# Altium footprint library Connector.PcbLib: 240 footprints (part 12 of 15)
Each footprint in its own frame and in the unit in brackets; x right, y up, seen from the top. Pads: shape width x height; smd on the part's side, far side on the other; paste and mask are expansions set on the pad; w line width, h text height; cw(c..) or ccw(c..) is an arc to the next point about the centre after c.
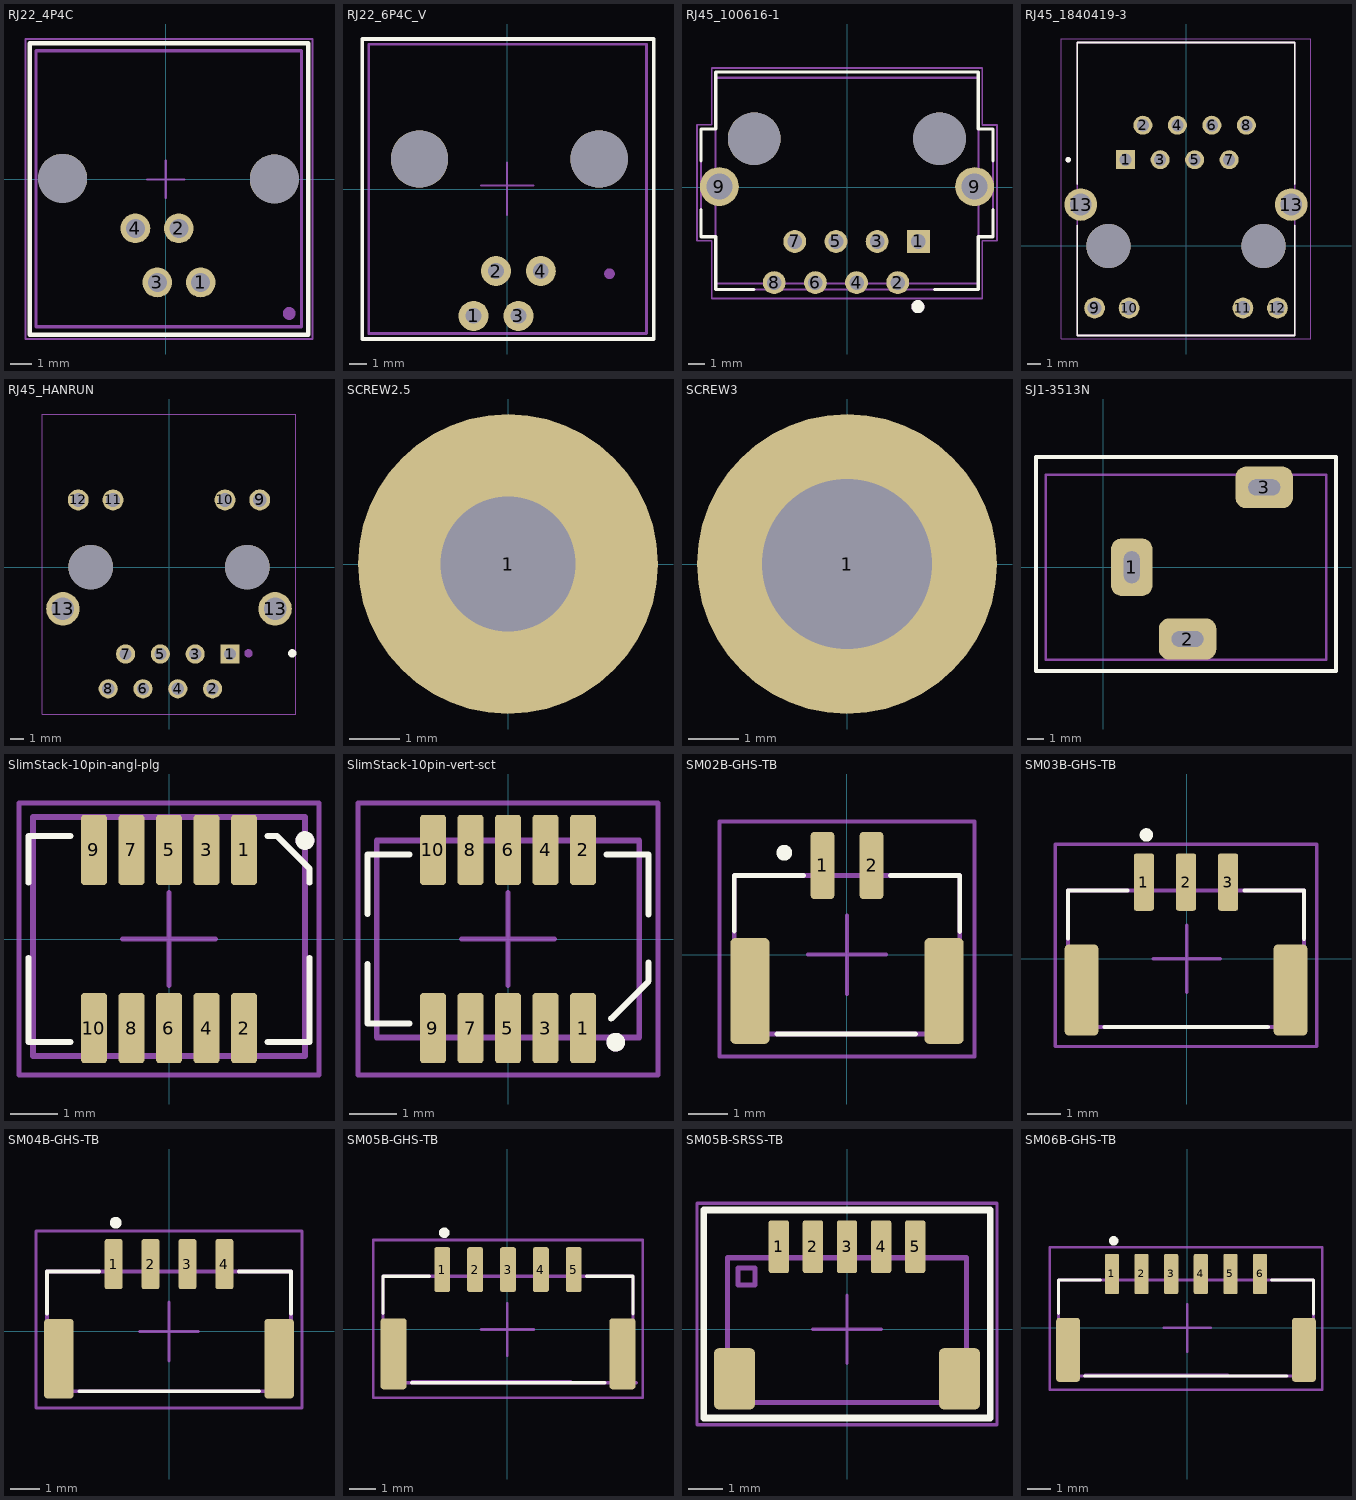
[diagram p11: the footprints below, top view; thin cyan lines are the x and y axes]

## RJ22_4P4C [mm]
pads (6):
  round 1.398 hole 0.89: 1(1.64,-4.84) 2(0.61,-2.3) 3(-0.4,-4.84) 4(-1.43,-2.3)
  round 2.3 hole 2.3 unplated: ""(-4.85,0.05) ""(5.1,0.025)
Top Overlay:
  lines w0.2: -6.4,-7.3 -6.4,6.4 6.7,6.4 6.7,-7.3 -6.4,-7.3
Mechanical 4:
  circle w0.3: c5.8,-6.3 r0.15
Mechanical 9:
  text ".Designator" at -5.45,9.3 h3.5
Mechanical 10:
  text ".Comment" at -3.25,7.3 h2
Mechanical 11:
  lines w0.15: -6.1,-6.925 6.375,-6.925 6.375,6.05 -6.1,6.05 -6.1,-6.925
Mechanical 15:
  lines w0.1: -0.875,0 0.875,0 ; 0,-0.875 0,0.875 ; -6.6,-7.5 6.9,-7.5 6.9,6.6 -6.6,6.6 -6.6,-7.5
3D body "71070909.stp": height 14.55, standoff -3.4, extent -6.106,-6.945 6.356,6.055

## RJ22_6P4C_V [mm]
pads (6):
  round 1.7 hole 0.89: 1(-1.9,-7.19) 2(-0.63,-4.65) 3(0.64,-7.19) 4(1.91,-4.65)
  round 3.25 hole 3.25 unplated: ""(-4.965,1.7) ""(5.215,1.7)
Top Overlay:
  lines w0.2: -8.2,-8.5 -8.2,8.5 8.3,8.5 8.3,-8.5 -8.2,-8.5
Mechanical 4:
  circle w0.3: c5.8,-4.8 r0.15
Mechanical 9:
  text ".Designator" at -5.8,-11.8 h3.5
Mechanical 10:
  text ".Comment" at -3.6,-13.8 h2
Mechanical 11:
  lines w0.15: -7.85,-8.185 -7.85,8.195 7.9,8.195 7.9,-8.185 -7.85,-8.185
Mechanical 15:
  lines w0.1: -1.5,0.2 1.5,0.2 ; 0,-1.47 0,1.5 ; -8.2,-8.5 8.3,-8.5 8.3,8.5 -8.2,8.5 -8.2,-8.5
3D body "69254-002LFc.stp": height 15.05, standoff -4.5, extent -7.85,-8.185 7.9,8.195

## RJ45_100616-1 [mm]
pads (12):
  rect 1.408x1.408 hole 0.9: 1(4.395,-3.335)
  round 1.408 hole 0.9: 2(3.125,-5.875) 3(1.855,-3.335) 4(0.585,-5.875) 5(-0.685,-3.335) 6(-1.955,-5.875) 7(-3.225,-3.335) 8(-4.495,-5.875)
  round 2.4 hole 1.6: 9(-7.88,0.05) 9(7.87,0.05)
  round 3.25 hole 3.25 unplated: ""(-5.73,3) ""(5.7,3)
Top Overlay:
  circle w0.4: c4.365,-7.355 r0.2
  lines w0.2: -9.005,-1.36 -9.005,-3.04 -8.105,-3.04 -8.105,-6.29 -5.76,-6.29 ; -9.005,1.64 -9.005,3.6 ; -9.005,3.605 -8.105,3.605 -8.105,7.11 8.095,7.11 8.095,3.6 8.995,3.6 8.995,1.64 ; 5.4,-6.29 8.095,-6.29 8.095,-3.04 8.995,-3.04 8.995,-1.36
Mechanical 7:
  circle w0.4: c4.365,-7.36 r0.2
  circle w0.4: c4.365,-7.36 r0.2
  lines w0.127: -9.005,-3.04 -8.105,-3.04 ; -9.005,-3.04 -9.005,3.605 ; -9.005,-3.04 -8.105,-3.04 ; -9.005,-3.04 -9.005,3.605 ; -9.005,3.605 -8.105,3.605 ; -9.005,3.605 -8.105,3.605 ; -8.105,-6.29 8.095,-6.29 ; -8.105,-6.29 -8.105,-5.94 ; -8.105,-6.29 8.095,-6.29 ; -8.105,-6.29 -8.105,-5.94 ; -8.105,-5.94 8.095,-5.94 ; -8.105,-5.94 -8.105,-3.04 ; -8.105,-5.94 8.095,-5.94 ; -8.105,-5.94 -8.105,-3.04 ; -8.105,-3.04 -8.105,3.605 ; -8.105,-3.04 -8.105,3.605 ; -8.105,3.605 -8.105,6.76 ; -8.105,3.605 -8.105,6.76 ; -8.105,6.76 -8.105,7.11 ; -8.105,6.76 8.095,6.76 ; -8.105,6.76 -8.105,7.11 ; -8.105,6.76 8.095,6.76 ; -8.105,7.11 8.095,7.11 ; -8.105,7.11 8.095,7.11 ; 8.095,-6.29 8.095,-5.94 ; 8.095,-6.29 8.095,-5.94 ; 8.095,-5.94 8.095,-3.04 ; 8.095,-5.94 8.095,-3.04 ; 8.095,-3.04 8.995,-3.04 ; 8.095,-3.04 8.095,3.6 ; 8.095,-3.04 8.995,-3.04 ; 8.095,-3.04 8.095,3.6 ; 8.095,3.6 8.995,3.6 ; 8.095,3.6 8.095,6.76 ; 8.095,3.6 8.995,3.6 ; 8.095,3.6 8.095,6.76 ; 8.095,6.76 8.095,7.11 ; 8.095,6.76 8.095,7.11 ; 8.995,-3.04 8.995,3.6 ; 8.995,-3.04 8.995,3.6
Mechanical 9:
  text ".Designator" at -6.36,12.76 h3.5
Mechanical 10:
  text ".Comment" at -2.96,10.56 h2
Mechanical 15:
  lines w0.1: -9.255,-3.29 -8.355,-3.29 -8.355,-6.85 8.345,-6.85 8.345,-3.29 9.245,-3.29 9.245,3.85 8.345,3.85 8.345,7.36 -8.355,7.36 -8.355,3.855 -9.255,3.855 -9.255,-3.29
3D body "c-100616-1-g-3d.stp": height 16.7, standoff -3.15, extent -9.035,-6.625 8.965,6.775

## RJ45_1840419-3 [mm]
pads (16):
  rect 1.398x1.398 hole 0.89: 1(-4.445,6.35)
  round 1.398 hole 0.89: 2(-3.175,8.89) 3(-1.905,6.35) 4(-0.635,8.89) 5(0.635,6.35) 6(1.905,8.89) 7(3.175,6.35) 8(4.445,8.89)
  round 1.53 hole 1.02: 9(-6.73,-4.57) 10(-4.19,-4.57) 11(4.19,-4.57) 12(6.73,-4.57)
  round 2.4 hole 1.6: 13(-7.745,3.05) 13(7.745,3.05)
  round 3.25 hole 3.25 unplated: ""(-5.715,0) ""(5.715,0)
Top Overlay:
  circle w0.2: c-8.675,6.35 r0.1
  lines w0.127: -8,1.52 -8,-6.6 8,-6.6 8,1.52 ; -8,4.57 -8,14.99 8,14.99 8,4.57
Mechanical 13:
  circle w0.2: c-8.675,6.35 r0.1
  lines w0.127: -8,-6.6 -8,14.99 8,14.99 8,-6.6 -8,-6.6
Mechanical 15:
  lines w0.05: -9.2,-6.85 -9.2,15.24 9.2,15.24 9.2,-6.85 -9.2,-6.85
3D body "Ethernet2.STEP": height 16.51, standoff -3.56, extent -8.545,-6.605 8.545,14.985

## RJ45_HANRUN [mm]
pads (16):
  rect 1.398x1.398 hole 0.89: 1(4.45,-6.35)
  round 1.398 hole 0.89: 2(3.18,-8.89) 3(1.91,-6.35) 4(0.64,-8.89) 5(-0.63,-6.35) 6(-1.9,-8.89) 7(-3.17,-6.35) 8(-4.44,-8.89)
  round 1.53 hole 1.02: 9(6.625,4.9) 10(4.085,4.9) 11(-4.085,4.9) 12(-6.625,4.9)
  round 2.445 hole 1.63: 13(-7.745,-3.05) 13(7.745,-3.05)
  round 3.25 hole 3.25 unplated: ""(-5.715,0) ""(5.715,0)
Top Overlay:
  circle w0.3: c9,-6.3 r0.15
Mechanical 4:
  circle w0.3: c5.8,-6.3 r0.15
  circle w0.3: c5.8,-6.3 r0.15
Mechanical 15:
  lines w0.05: -9.25,-10.73 9.25,-10.73 9.25,11.17 -9.25,11.17 -9.25,-10.73
3D body "User Library-HR911105A.step": height 13.5, standoff -3, extent -7.93,-10.475 7.95,10.925

## SCREW2.5 [mm]
height 0.05
pads (1):
  round 6 hole 2.7: 1(0,0)

## SCREW3 [mm]
height 0.05
pads (1):
  round 6 hole 3.4: 1(0,0)

## SJ1-3513N [mm]
pads (3):
  rrect50% 2.6x3.6 hole 1 slot 2 at 90 deg: 1(1.8,0)
  rrect50% 3.6x2.6 hole 1 slot 2 at 0 deg: 2(5.3,-4.5) 3(10.1,5)
Top Overlay:
  lines w0.254: -4.2,-6.5 -4.2,6.9 14.6,6.9 14.6,-6.5 -4.2,-6.5
Mechanical 7:
  lines w0.15: -3.6,-5.8 -3.6,5.8 14,5.8 14,-5.8 -3.6,-5.8
3D body "sj1-3513.stp": height 6, standoff -3, extent -3.55,-5.75 13.95,5.75

## SlimStack-10pin-angl-plg [mm]
pads (10):
  rrect25% 0.55x1.5 smd: 1(1.6,1.9) 2(1.6,-1.9) 3(0.8,1.9) 4(0.8,-1.9) 5(0,1.9) 6(0,-1.9) 7(-0.8,1.9) 8(-0.8,-1.9) 9(-1.6,1.9) 10(-1.6,-1.9)
Top Overlay:
  circle w0.2: c2.9,2.1 r0.1
  lines w0.127: -3,-0.4 -3,-2.2 -2.1,-2.2 ; -3,1.2 -3,2.2 -2.1,2.2 ; 2.1,-2.2 3,-2.2 3,-0.4 ; 2.1,2.2 2.3,2.2 3,1.5 3,1.2
Mechanical 7:
  circle w0.2: c2.9,2.1 r0.1
  lines w0.127: -2.9,-2.5 2.9,-2.5 2.9,2.6 -2.9,2.6 -2.9,-2.5
Mechanical 9:
  text ".Designator" at -4.9,4.6 h3.5
Mechanical 10:
  text ".Comment" at -3.1,-5.9 h2
Mechanical 15:
  lines w0.1: -1,0 1,0 ; 0,-1 0,1 ; -3.2,-2.9 3.2,-2.9 3.2,2.9 -3.2,2.9 -3.2,-2.9
3D body "533091070.stp": height 4.67, standoff -0.02, extent -2.9,-2.5 2.9,2.6

## SlimStack-10pin-vert-sct [mm]
pads (10):
  rrect25% 0.55x1.5 smd: 1(1.6,-1.9) 2(1.6,1.9) 3(0.8,-1.9) 4(0.8,1.9) 5(0,-1.9) 6(0,1.9) 7(-0.8,-1.9) 8(-0.8,1.9) 9(-1.6,-1.9) 10(-1.6,1.9)
Top Overlay:
  circle w0.2: c2.3,-2.2 r0.1
  lines w0.127: -3,-0.53 -3,-1.8 -2.1,-1.8 ; -3,0.53 -3,1.8 -2.1,1.8 ; 2.1,1.8 3,1.8 3,0.52 ; 2.2,-1.7 3,-0.9 3,-0.5
Mechanical 7:
  circle w0.2: c2.3,-2.2 r0.1
  lines w0.127: -2.8,-2.1 2.8,-2.1 2.8,2.1 -2.8,2.1 -2.8,-2.1
Mechanical 9:
  text ".Designator" at -4.9,4.6 h3.5
Mechanical 10:
  text ".Comment" at -3.1,-5.9 h2
Mechanical 15:
  lines w0.1: -1,0 1,0 ; 0,-1 0,1 ; -3.2,-2.9 3.2,-2.9 3.2,2.9 -3.2,2.9 -3.2,-2.9
3D body "524651071.stp": height 3.53, standoff -0.02, extent -2.8,-2.1 2.8,2.1

## SM02B-GHS-TB [mm]
pads (4):
  rrect25% 0.6x1.7 smd: 1(-0.625,2.275) 2(0.625,2.275)
  rrect25% 1x2.7 smd: ""(-2.475,-0.925) ""(2.475,-0.925)
Top Overlay:
  circle w0.2: c-1.6,2.6 r0.1
  lines w0.127: -2.875,0.605 -2.875,2.025 -1.11,2.025 ; -1.79,-2.025 1.75,-2.025 ; 1.11,2.025 2.875,2.025 2.875,0.595
Mechanical 7:
  circle w0.2: c-0.55,2.675 r0.1
  lines w0.127: -2.875,-2.025 -2.875,2.025 2.875,2.025 2.875,-2.025 -2.875,-2.025
Mechanical 9:
  text ".Designator" at -4.9,4.6 h3.5
Mechanical 10:
  text ".Comment" at -2.9,-4.4 h2
Mechanical 15:
  lines w0.1: -1,0 1,0 ; 0,-1 0,1 ; -3.25,-2.6 -3.25,3.4 3.25,3.4 3.25,-2.6 -3.25,-2.6
3D body "SM02B-GHS-TB.stp": height 4.25, standoff -0.05, extent -2.875,-2.025 2.875,2.825

## SM03B-GHS-TB [mm]
pads (5):
  rrect25% 0.6x1.7 smd: 1(-1.275,2.275) 2(-0.025,2.275) 3(1.225,2.275)
  rrect25% 1x2.7 smd: ""(-3.125,-0.925) ""(3.075,-0.925)
Top Overlay:
  circle w0.2: c-1.2,3.675 r0.1
  lines w0.127: -3.525,0.605 -3.525,2.025 -1.76,2.025 ; -2.44,-2.025 2.4,-2.025 ; 1.71,2.025 3.475,2.025 3.475,0.595
Mechanical 7:
  circle w0.2: c-1.2,2.675 r0.1
  lines w0.127: -3.525,-2.025 3.475,-2.025 3.475,2.025 -3.525,2.025 -3.525,-2.025
Mechanical 9:
  text ".Designator" at -4.9,4.6 h3.5
Mechanical 10:
  text ".Comment" at -2.9,-4.4 h2
Mechanical 15:
  lines w0.1: -1,0 1,0 ; 0,-1 0,1 ; -3.9,-2.6 3.85,-2.6 3.85,3.4 -3.9,3.4 -3.9,-2.6
3D body "SM03B-GHS-TB.stp": height 4.25, standoff -0.05, extent -3.525,-2.025 3.475,2.825

## SM04B-GHS-TB [mm]
pads (6):
  rrect25% 0.6x1.7 smd: 1(-1.875,2.275) 2(-0.625,2.275) 3(0.625,2.275) 4(1.875,2.275)
  rrect25% 1x2.7 smd: ""(-3.725,-0.925) ""(3.725,-0.925)
Top Overlay:
  circle w0.2: c-1.8,3.675 r0.1
  lines w0.127: -4.125,0.605 -4.125,2.025 -2.36,2.025 ; -3.04,-2.025 3.05,-2.025 ; 2.36,2.025 4.125,2.025 4.125,0.595
Mechanical 7:
  circle w0.2: c-1.8,2.675 r0.1
  lines w0.127: -4.125,-2.025 4.125,-2.025 4.125,2.025 -4.125,2.025 -4.125,-2.025
Mechanical 9:
  text ".Designator" at -4.9,4.6 h3.5
Mechanical 10:
  text ".Comment" at -2.9,-4.4 h2
Mechanical 15:
  lines w0.1: -1,0 1,0 ; 0,-1 0,1 ; -4.5,-2.6 4.5,-2.6 4.5,3.4 -4.5,3.4 -4.5,-2.6
3D body "User Library-SM04B-GHS-TB.step": height 4.25, standoff -0.1, extent -4.125,-2 4.125,2.85

## SM05B-GHS-TB [mm]
pads (7):
  rrect25% 0.6x1.7 smd: 1(-2.475,2.275) 2(-1.225,2.275) 3(0.025,2.275) 4(1.275,2.275) 5(2.525,2.275)
  rrect25% 1x2.7 smd: ""(-4.325,-0.925) ""(4.375,-0.925)
Top Overlay:
  circle w0.2: c-2.4,3.675 r0.1
  lines w0.127: -4.725,0.605 -4.725,2.025 -2.96,2.025 ; -3.64,-2.025 3.7,-2.025 ; 3.01,2.025 4.775,2.025 4.775,0.595
Mechanical 7:
  circle w0.2: c-2.4,2.675 r0.1
  lines w0.127: 4.775,-2.025 4.775,2.025 -4.725,2.025 -4.725,-2.025 4.9,-2.025
  lines w0.15: -3.6,-2 2.4,-2
Mechanical 9:
  text ".Designator" at -4.9,4.7 h3.5
Mechanical 10:
  text ".Comment" at -2.9,-4.2 h2
Mechanical 15:
  lines w0.1: -1,0 1,0 ; 0,-1 0,1 ; -5.1,-2.6 -5.1,3.4 5.15,3.4 5.15,-2.6 -5.1,-2.6
3D body "SM05B-GHS-TB.stp": height 4.25, standoff -0.05, extent -4.725,-2.025 4.775,2.825

## SM05B-SRSS-TB [mm]
pads (7):
  rrect25% 0.6x1.55 smd: 1(-2,2.425) 2(-1,2.425) 3(0,2.425) 4(1,2.425) 5(2,2.425)
  rrect25% 1.2x1.8 smd: ""(-3.3,-1.45) ""(3.3,-1.45)
Top Overlay:
  lines w0.2: -4.2,-2.6 4.2,-2.6 4.2,3.5 -4.2,3.5 -4.2,-2.6
Mechanical 7:
  lines w0.15: -3.5,-2.15 -3.5,2.1 ; -3.5,-2.15 3.5,-2.15 ; -3.5,-2.15 -3.5,2.1 ; -3.5,-2.15 3.5,-2.15 ; -3.5,2.1 3.5,2.1 ; -3.5,2.1 3.5,2.1 ; 3.5,-2.15 3.5,2.1 ; 3.5,-2.15 3.5,2.1 ; -3.2,1.3 -2.7,1.3 -2.7,1.8 -3.2,1.8 -3.2,1.3
Mechanical 9:
  text ".Designator" at -4.9,4.6 h3.5
Mechanical 10:
  text ".Comment" at -2.9,-4.4 h2
Mechanical 15:
  lines w0.1: -1,0 1,0 ; 0,-1 0,1 ; -4.4,-2.8 -4.4,3.7 4.4,3.7 4.4,-2.8 -4.4,-2.8
3D body "User Library-JST - SM05B-SRSS-TB (SH SERIES - 1_0mm PITCH WIRE-TO-BOARD, SMT, RA).step": height 2.9, standoff 0, extent -3.5,-2.2 3.5,2.75

## SM06B-GHS-TB [mm]
pads (8):
  rrect25% 0.6x1.7 smd: 1(-3.175,2.275) 2(-1.925,2.275) 3(-0.675,2.275) 4(0.575,2.275) 5(1.825,2.275) 6(3.075,2.275)
  rrect25% 1x2.7 smd: ""(-5.025,-0.925) ""(4.925,-0.925)
Top Overlay:
  circle w0.2: c-3.1,3.675 r0.1
  lines w0.127: -5.425,0.605 -5.425,2.025 -3.66,2.025 ; -4.34,-2.025 4.2,-2.025 ; 3.56,2.025 5.325,2.025 5.325,0.595
Mechanical 7:
  circle w0.2: c-3.1,2.675 r0.1
  lines w0.127: -5.425,-2.025 5.325,-2.025 5.325,2.025 -5.425,2.025 -5.425,-2.025
  lines w0.15: -4.3,-2 1.7,-2
Mechanical 9:
  text ".Designator" at -4.9,4.7 h3.5
Mechanical 10:
  text ".Comment" at -2.9,-4.2 h2
Mechanical 15:
  lines w0.1: -1,0 1,0 ; 0,-1 0,1 ; -5.8,-2.6 5.7,-2.6 5.7,3.4 -5.8,3.4 -5.8,-2.6
3D body "SM06B-GHS-TB.stp": height 4.25, standoff -0.05, extent -5.475,-2.025 5.275,2.825